# Altium schematic symbol library SamacSys.SchLib: 53 symbols
Pins are listed as number, name and electrical type; pins without a type are passive.

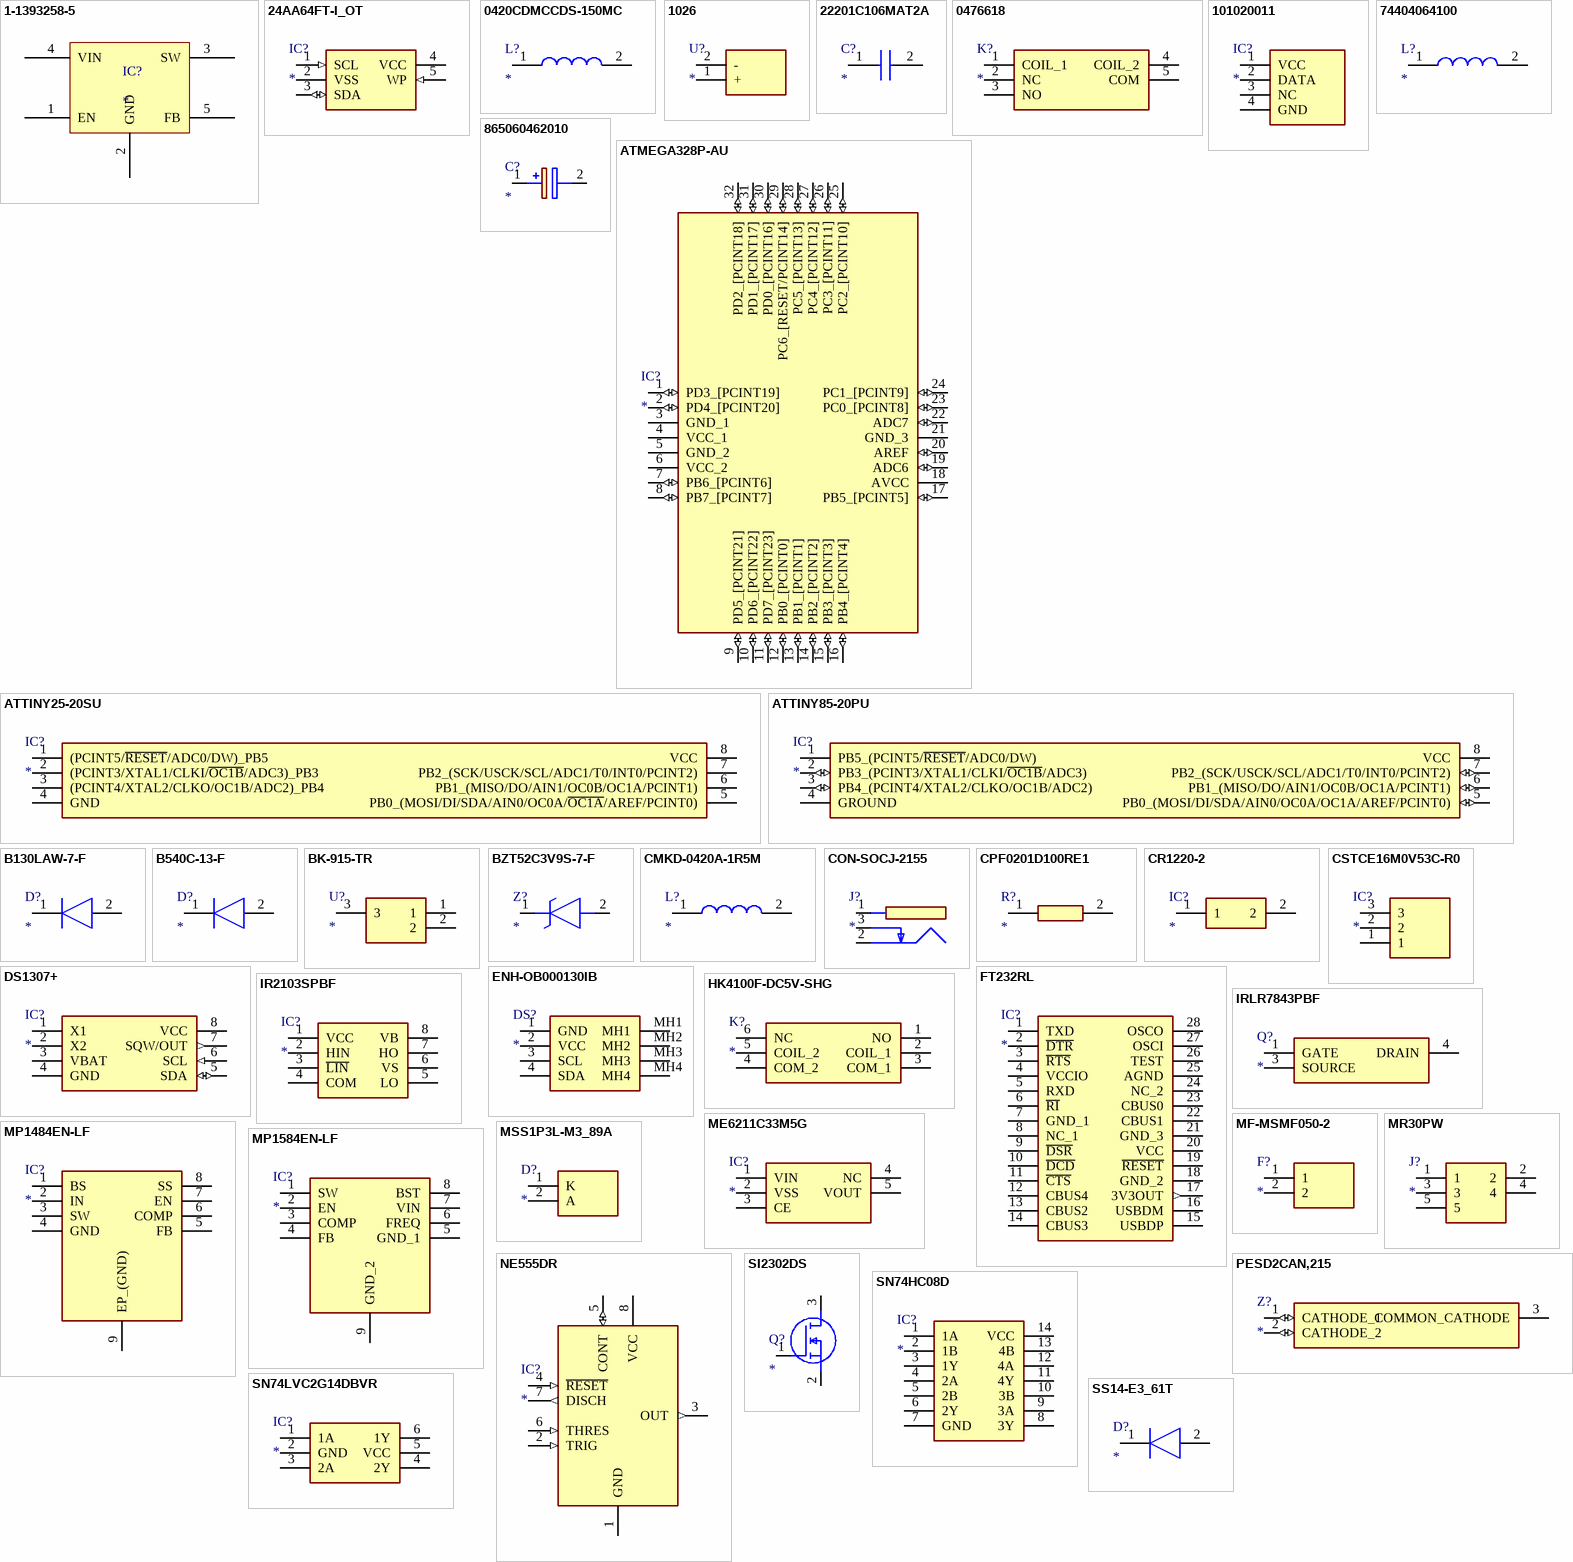
[diagram p0: symbols 1-1393258-5 to SS14-E3_61T]

## 1-1393258-5
designator IC?
Relay or Contactor; Manufacturer_Name: TE Connectivity; Manufacturer_Part_Number: 1-1393258-5; Datasheet Link: http://www.te.com/commerce/DocumentDelivery/DDEController?Action=showdoc&DocId=Data+Sheet%7FSR2M%7F1116%7Fpdf%7FEnglish%7FENG_DS_SR2M_1116.pdf%7F1-1393258-5; Height: 25mm
footprint 13932584
footprint SOT23-5
pins: 1 EN, 2 GND, 3 SW, 4 VIN, 5 FB

## 24AA64FT-I_OT
designator IC?
Integrated Circuit; Manufacturer_Name: Microchip; Manufacturer_Part_Number: 24AA64FT-I/OT; Datasheet Link: http://ww1.microchip.com/downloads/en/DeviceDoc/21189T.pdf; Height: 1.45mm; Mouser Part Number: 579-24AA64FT-I/OT; Mouser Price/Stock: https://www.mouser.com/Search/Refine.aspx?Keyword=579-24AA64FT-I%2FOT; RS Part Number: 8250991; RS Price/Stock: https://uk.rs-online.com/web/p/products/8250991
footprint SOT95P270X145-5N
pins: 1 SCL (in), 2 VSS (power), 3 SDA (io), 4 VCC (power), 5 WP (in)

## 0420CDMCCDS-150MC
designator L?
Inductor; Manufacturer_Name: Sumida; Manufacturer_Part_Number: 0420CDMCCDS-150MC; Datasheet Link: https://products.sumida.com/products/pdf/0420CDMCCDS1.pdf; Height: 2mm; Arrow Part Number: 0420CDMCCDS-150MC; Arrow Price/Stock: https://www.arrow.com/en/products/0420cdmccds-150mc/sumida; Mouser Part Number: 851-0420CDMCCDS150MC; Mouser Price/Stock: https://www.mouser.co.uk/ProductDetail/Sumida/0420CDMCCDS-150MC?qs=%252BEew9%252B0nqrBLzRjkkJGxWA%3D%3D
footprint 0420CDMCCDS150MC
pins: 1, 2

## 1026
designator U?
Undefined or Miscellaneous; Manufacturer_Name: Keystone Electronics; Manufacturer_Part_Number: 1026; Allied_Number: 70182086; Datasheet Link: http://www.keyelco.com/product-pdf.cfm?p=721; Mouser Part Number: 534-1026; Mouser Price/Stock: https://www.mouser.com/Search/Refine.aspx?Keyword=534-1026; RS Part Number: 1142133; RS Price/Stock: http://uk.rs-online.com/web/p/products/1142133; Allied Price/Stock: http://www.alliedelec.com/keystone-electronics-1026/70182086/
footprint 1026
pins: 1 +, 2 -

## 22201C106MAT2A
designator C?
Capacitor; Manufacturer_Name: AVX; Manufacturer_Part_Number: 22201C106MAT2A; Datasheet Link: http://datasheets.avx.com/X7RDielectric.pdf; Height: 2.54mm; Arrow Part Number: 22201C106MAT2A; Arrow Price/Stock: https://www.arrow.com/en/products/22201c106mat2a/avx; Mouser Part Number: 581-22201C106MAT2A; Mouser Price/Stock: https://www.mouser.co.uk/ProductDetail/AVX/22201C106MAT2A?qs=LGawwvMOr29m3pBB9JVCfA%3D%3D
footprint CAPC5750X254N
pins: 1, 2

## 0476618
designator K?
Relay or Contactor; Manufacturer_Name: RS Components; Manufacturer_Part_Number: 0476618; Datasheet Link: https://docs-emea.rs-online.com/webdocs/1583/0900766b81583163.pdf; Height: 15mm
footprint 0476618
pins: 1 COIL_1, 2 NC, 3 NO, 4 COIL_2, 5 COM

## 101020011
designator IC?
Integrated Circuit; Manufacturer_Name: Seeed Studio; Manufacturer_Part_Number: 101020011; Datasheet Link: https://componentsearchengine.com/Datasheets/1/101020011.pdf; Height: 15.5mm; Mouser Part Number: 713-101020011; Mouser Price/Stock: https://www.mouser.com/Search/Refine.aspx?Keyword=713-101020011; RS Part Number: 1743237; RS Price/Stock: http://uk.rs-online.com/web/p/products/1743237
footprint HDRV4W80P0X254_1X4_1200X500X1550P
pins: 1 VCC, 2 DATA, 3 NC, 4 GND

## 74404064100
designator L?
Inductor; Manufacturer_Name: Wurth Elektronik; Manufacturer_Part_Number: 74404064100; Datasheet Link: https://katalog.we-online.com/pbs/datasheet/74404064100.pdf; Height: 4mm; Mouser Part Number: 710-74404064100; Mouser Price/Stock: https://www.mouser.com/Search/Refine.aspx?Keyword=710-74404064100; RS Part Number: 8142663P; RS Price/Stock: http://uk.rs-online.com/web/p/products/8142663P
footprint 74404064470
pins: 1, 2

## 865060462010
designator C?
Capacitor Polarised; Manufacturer_Name: Wurth Elektronik; Manufacturer_Part_Number: 865060462010; Datasheet Link: https://katalog.we-online.de/pbs/datasheet/865060462010.pdf; Height: 14mm; Mouser Part Number: 710-865060462010; Mouser Price/Stock: https://www.mouser.com/Search/Refine.aspx?Keyword=710-865060462010; RS Part Number: 8395599; RS Price/Stock: https://uk.rs-online.com/web/p/products/8395599
footprint CAPAE1350X1400N
pins: 1 -, 2 +

## ATMEGA328P-AU
designator IC?
Integrated Circuit; Manufacturer_Name: Microchip; Manufacturer_Part_Number: ATMEGA328P-AU; Datasheet Link: https://componentsearchengine.com/Datasheets/2/ATMEGA328P-AU.pdf; Height: 1.2mm; Mouser Part Number: 556-ATMEGA328P-AU; Mouser Price/Stock: https://www.mouser.com/Search/Refine.aspx?Keyword=556-ATMEGA328P-AU; RS Part Number: 1310271P; RS Price/Stock: http://uk.rs-online.com/web/p/products/1310271P
footprint QFP80P900X900X120-32N
pins: 1 PD3_[PCINT19] (io), 2 PD4_[PCINT20] (io), 3 GND_1 (power), 4 VCC_1 (power), 5 GND_2 (power), 6 VCC_2 (power), 7 PB6_[PCINT6] (io), 8 PB7_[PCINT7] (io), 9 PD5_[PCINT21] (io), 10 PD6_[PCINT22] (io), 11 PD7_[PCINT23] (io), 12 PB0_[PCINT0] (io), 13 PB1_[PCINT1] (io), 14 PB2_[PCINT2] (io), 15 PB3_[PCINT3] (io), 16 PB4_[PCINT4] (io), 17 PB5_[PCINT5] (io), 18 AVCC (power), 19 ADC6 (io), 20 AREF (io), 21 GND_3 (power), 22 ADC7 (io), 23 PC0_[PCINT8] (io), 24 PC1_[PCINT9] (io), 25 PC2_[PCINT10] (io), 26 PC3_[PCINT11] (io), 27 PC4_[PCINT12] (io), 28 PC5_[PCINT13] (io), 29 PC6_[RESET/PCINT14] (io), 30 PD0_[PCINT16] (io), 31 PD1_[PCINT17] (io), 32 PD2_[PCINT18] (io)

## ATTINY25-20SU
designator IC?
Integrated Circuit; Manufacturer_Name: Microchip; Manufacturer_Part_Number: ATTINY25-20SU; Datasheet Link: http://docs-emea.rs-online.com/webdocs/0d68/0900766b80d68841.pdf; Height: 2.16mm; Mouser Part Number: 556-ATTINY25-20SU; Mouser Price/Stock: https://www.mouser.co.uk/ProductDetail/Microchip-Technology-Atmel/ATTINY25-20SU?qs=8jWQYweyg6Ne6mWXNq20wQ%3D%3D; RS Part Number: 6664499; RS Price/Stock: https://uk.rs-online.com/web/p/products/6664499
footprint SOIC127P798X216-8N
pins: 1 (PCINT5/~{RESET}/ADC0/DW)_PB5, 2 (PCINT3/XTAL1/CLKI/~{OC1B}/ADC3)_PB3, 3 (PCINT4/XTAL2/CLKO/OC1B/ADC2)_PB4, 4 GND, 5 PB0_(MOSI/DI/SDA/AIN0/OC0A/~{OC1A}/AREF/PCINT0), 6 PB1_(MISO/DO/AIN1/OC0B/OC1A/PCINT1), 7 PB2_(SCK/USCK/SCL/ADC1/T0/INT0/PCINT2), 8 VCC

## ATTINY85-20PU
designator IC?
Integrated Circuit; Manufacturer_Name: Microchip; Manufacturer_Part_Number: ATTINY85-20PU; Datasheet Link: https://componentsearchengine.com/Datasheets/2/ATTINY85-20PU.pdf; Height: 5.334mm; Mouser Part Number: 556-ATTINY85-20PU; Mouser Price/Stock: https://www.mouser.com/Search/Refine.aspx?Keyword=556-ATTINY85-20PU; RS Part Number: 1331672P; RS Price/Stock: http://uk.rs-online.com/web/p/products/1331672P
footprint DIP781W56P254L950H533Q8N
pins: 1 PB5_(PCINT5/~{RESET}/ADC0/DW), 2 PB3_(PCINT3/XTAL1/CLKI/~{OC1B}/ADC3) (io), 3 PB4_(PCINT4/XTAL2/CLKO/OC1B/ADC2) (io), 4 GROUND (power), 5 PB0_(MOSI/DI/SDA/AIN0/OC0A/OC1A/AREF/PCINT0) (io), 6 PB1_(MISO/DO/AIN1/OC0B/OC1A/PCINT1) (io), 7 PB2_(SCK/USCK/SCL/ADC1/T0/INT0/PCINT2) (io), 8 VCC (power)

## B130LAW-7-F
designator D?
Diode; Manufacturer_Name: Diodes Inc.; Manufacturer_Part_Number: B130LAW-7-F; Allied_Number: 70437536; Datasheet Link: http://docs-emea.rs-online.com/webdocs/104e/0900766b8104e347.pdf; Height: 1.45mm; Mouser Part Number: 621-B130LAW-F; Mouser Price/Stock: https://www.mouser.com/Search/Refine.aspx?Keyword=621-B130LAW-F; RS Part Number: 7513193P; RS Price/Stock: http://uk.rs-online.com/web/p/products/7513193P; Allied Price/Stock: http://www.alliedelec.com/diodes-inc-b130law-7-f/70437536/
footprint SOD3716X145N
pins: 1 K, 2 A

## B540C-13-F
designator D?
Diode; Manufacturer_Name: Diodes Inc.; Manufacturer_Part_Number: B540C-13-F; Datasheet Link: https://componentsearchengine.com/Datasheets/2/B540C-13-F.pdf; Height: 2.5mm; Arrow Part Number: B540C-13-F; Arrow Price/Stock: https://www.arrow.com/en/products/b540c-13-f/diodes-incorporated; Mouser Part Number: 621-B540C-F; Mouser Price/Stock: https://www.mouser.co.uk/ProductDetail/Diodes-Incorporated/B540C-13-F?qs=v2dnQLbuoRZXHN%2FK4ft5%252Bg%3D%3D
footprint DIOM7959X250N
pins: 1 K, 2 A

## BK-915-TR
designator U?
Undefined or Miscellaneous; Manufacturer_Name: MPD (Memory Protection Devices); Manufacturer_Part_Number: BK-915-TR; Datasheet Link: http://www.memoryprotectiondevices.com/datasheets/BK-915-datasheet.pdf; Height: 3mm
footprint BK915TR
pins: 1, 2, 3

## BZT52C3V9S-7-F
designator Z?
Zener Diode; Manufacturer_Name: Diodes Inc.; Manufacturer_Part_Number: BZT52C3V9S-7-F; Allied_Number: 70437795; Datasheet Link: https://www.diodes.com/assets/Datasheets/ds30093.pdf; Height: 1.1mm; Mouser Part Number: 621-BZT52C3V9S-F; Mouser Price/Stock: https://www.mouser.com/Search/Refine.aspx?Keyword=621-BZT52C3V9S-F; RS Part Number: 7513761; RS Price/Stock: https://uk.rs-online.com/web/p/products/7513761; Allied Price/Stock: https://www.alliedelec.com/diodes-inc-bzt52c3v9s-7-f/70437795/
footprint SOD2513X110N
pins: 1 K, 2 A

## CMKD-0420A-1R5M
designator L?
Inductor; Manufacturer_Name: Magsonder; Manufacturer_Part_Number: CMKD-0420A-1R5M; Datasheet Link: https://datasheet.lcsc.com/szlcsc/1912111437_Magsonder-CMKD-0420A-1R5M_C373330.pdf; Height: 2mm
footprint INDPM4442X200N
pins: 1, 2

## CON-SOCJ-2155
designator J?
Connector; Manufacturer_Name: Gravitech; Manufacturer_Part_Number: CON-SOCJ-2155; Datasheet Link: http://www.produktinfo.conrad.com/datenblaetter/1500000-1599999/001582350-da-01-en-DC_EINBAUBUCHSE__SCHALTER_GESCHLOSSEN.pdf; Height: 11mm; Mouser Part Number: 992-CON-SOCJ-2155; Mouser Price/Stock: https://www.mouser.com/Search/Refine.aspx?Keyword=992-CON-SOCJ-2155
footprint CONSOCJ2155
pins: 1, 2, 3

## CPF0201D100RE1
designator R?
Resistor; Manufacturer_Name: TE Connectivity; Manufacturer_Part_Number: CPF0201D100RE1; Datasheet Link: http://www.te.com/commerce/DocumentDelivery/DDEController?Action=showdoc&DocId=Data+Sheet%7F1773200-1%7FA%7Fpdf%7FEnglish%7FENG_DS_1773200-1_A.pdf%7F4-2176215-6; Height: 0.28mm; Mouser Part Number: 279-CPF0201D100RE1; Mouser Price/Stock: https://www.mouser.com/Search/Refine.aspx?Keyword=279-CPF0201D100RE1; RS Part Number: 7549192; RS Price/Stock: http://uk.rs-online.com/web/p/products/7549192
footprint RESC0603X28N
pins: 1, 2

## CR1220-2
designator IC?
Integrated Circuit; Manufacturer_Name: Q&J; Manufacturer_Part_Number: CR1220-2; Datasheet Link: https://datasheet.lcsc.com/szlcsc/Q-J-CR1220-2_C70381.pdf; Height: 4.1mm
footprint CR12202
pins: 1, 2

## CSTCE16M0V53C-R0
designator IC?
Integrated Circuit; Manufacturer_Name: Murata Electronics; Manufacturer_Part_Number: CSTCE16M0V53C-R0; Datasheet Link: https://www.murata.com/~/media/webrenewal/support/library/catalog/products/timingdevice/ceralock/p16e.ashx; Height: 1mm; Mouser Part Number: 81-CSTCE16M0V53C-R0; Mouser Price/Stock: https://www.mouser.com/Search/Refine.aspx?Keyword=81-CSTCE16M0V53C-R0; RS Part Number: 1062881P; RS Price/Stock: http://uk.rs-online.com/web/p/products/1062881P
footprint CSTCE16M0V53CR0
pins: 1, 2, 3

## DS1307+
designator IC?
Integrated Circuit; Manufacturer_Name: Maxim Integrated; Manufacturer_Part_Number: DS1307+; Datasheet Link: http://datasheets.maximintegrated.com/en/ds/DS1307.pdf; Height: 4.572mm; Mouser Part Number: 700-DS1307; Mouser Price/Stock: https://www.mouser.com/Search/Refine.aspx?Keyword=700-DS1307; RS Part Number: 1898457; RS Price/Stock: http://uk.rs-online.com/web/p/products/1898457
footprint DIP762W56P254L938H457Q8N
pins: 1 X1, 2 X2, 3 VBAT (power), 4 GND (power), 5 SDA (io), 6 SCL (in), 7 SQW/OUT (out), 8 VCC (power)

## ENH-OB000130IB
designator DS?
Display; Manufacturer_Name: Enrich; Manufacturer_Part_Number: ENH-OB000130IB; Datasheet Link: https://www.mediafire.com/file/zsigmwybxvnxqls/ENH-OB000130IB.pdf/file; Height: 4.4mm
footprint ENHOB000130IB
pins: 1 GND, 2 VCC, 3 SCL, 4 SDA, MH1, MH2, MH3, MH4

## FT232RL
designator IC?
Integrated Circuit; Manufacturer_Name: FTDI Chip; Manufacturer_Part_Number: FT232RL; Datasheet Link: http://www.ftdichip.com/Support/Documents/DataSheets/ICs/DS_FT232R.pdf; Height: 2mm; RS Part Number: 0406580P; RS Price/Stock: http://uk.rs-online.com/web/p/products/0406580P
footprint SOP65P780X200-28N
pins: 1 TXD, 2 ~{DTR}, 3 ~{RTS}, 4 VCCIO (power), 5 RXD, 6 ~{RI}, 7 GND_1 (power), 8 NC_1, 9 ~{DSR}, 10 ~{DCD}, 11 ~{CTS}, 12 CBUS4, 13 CBUS2, 14 CBUS3, 15 USBDP, 16 USBDM, 17 3V3OUT (out), 18 GND_2 (power), 19 ~{RESET}, 20 VCC (power), 21 GND_3 (power), 22 CBUS1, 23 CBUS0, 24 NC_2, 25 AGND (power), 26 TEST, 27 OSCI, 28 OSCO

## HK4100F-DC5V-SHG
designator K?
Relay or Contactor; Manufacturer_Name: Ningbo Keke New Era Appliance; Manufacturer_Part_Number: HK4100F-DC5V-SHG; Datasheet Link: https://datasheet.lcsc.com/szlcsc/1905051831_Ningbo-Keke-New-Era-Appliance-HK4100F-DC5V-SHG_C12072.pdf; Height: 12.1mm
footprint HK4100FDC5VSHG
pins: 1 NO, 2 COIL_1, 3 COM_1, 4 COM_2, 5 COIL_2, 6 NC

## IR2103SPBF
designator IC?
Integrated Circuit; Manufacturer_Name: International Rectifier; Manufacturer_Part_Number: IR2103SPBF; Description: International Rectifier IR2103SPBF; Datasheet Link: https://www.infineon.com/dgdl/ir2103.pdf?fileId=5546d462533600a4015355c7b54b166f; Height: 1.75mm
footprint SOIC127P600X175-8N
pins: 1 VCC, 2 HIN, 3 ~{LIN}, 4 COM, 5 LO, 6 VS, 7 HO, 8 VB

## IRLR7843PBF
designator Q?
Transistor; Manufacturer_Name: Infineon; Manufacturer_Part_Number: IRLR7843PBF; Description: HEXFET N-Ch MOSFET 161A 30V DPAK Infineon IRLR7843PBF N-channel MOSFET Transistor; Datasheet Link: https://www.infineon.com/dgdl/irlr7843pbf.pdf?fileId=5546d462533600a40153566de53526d8; Arrow Part Number: IRLR7843PBF; Arrow Price/Stock: https://www.arrow.com/en/products/irlr7843pbf/infineon-technologies-ag; Mouser Part Number: 942-IRLR7843PBF; Mouser Price/Stock: https://www.mouser.com/Search/Refine.aspx?Keyword=942-IRLR7843PBF
footprint D-PAK(TO-252AA)_1
pins: 1 GATE, 3 SOURCE, 4 DRAIN

## ME6211C33M5G
designator IC?
Integrated Circuit; Manufacturer_Name: Microne; Manufacturer_Part_Number: ME6211C33M5G; Datasheet Link: http://xinhuidianzi.com.cn/UploadSysFiles/files/LDO-series/ME6211-Series_E15.0.pdf; Height: 1.45mm
footprint SOT95P282X145-5N
pins: 1 VIN, 2 VSS, 3 CE, 4 NC, 5 VOUT

## MF-MSMF050-2
designator F?
Fuse; Manufacturer_Name: Bourns; Manufacturer_Part_Number: MF-MSMF050-2; Allied_Number: 70153466; Datasheet Link: https://www.bourns.com/pdfs/mfmsmf.pdf; Height: 0.85mm; Mouser Part Number: 652-MF-MSMF050-2; Mouser Price/Stock: https://www.mouser.com/Search/Refine.aspx?Keyword=652-MF-MSMF050-2; RS Part Number: 6478156P; RS Price/Stock: http://uk.rs-online.com/web/p/products/6478156P; Allied Price/Stock: https://www.alliedelec.com/bourns-mf-msmf050-2/70153466/
footprint FUSC4632X85N
pins: 1, 2

## MP1484EN-LF
designator IC?
Integrated Circuit; Manufacturer_Name: Monolithic Power Systems (MPS); Manufacturer_Part_Number: MP1484EN-LF; Datasheet Link: http://www.mouser.com/datasheet/2/277/MP1484-1186021.pdf; Height: 1.7mm; Mouser Part Number: 946-MP1484ENLF; Mouser Price/Stock: https://www.mouser.com/Search/Refine.aspx?Keyword=946-MP1484ENLF
footprint SOIC127P600X170-9N
pins: 1 BS, 2 IN, 3 SW, 4 GND, 5 FB, 6 COMP, 7 EN, 8 SS, 9 EP_(GND)

## MP1584EN-LF
designator IC?
Integrated Circuit; Manufacturer_Name: Monolithic Power Systems (MPS); Manufacturer_Part_Number: MP1584EN-LF; Datasheet Link: https://componentsearchengine.com/Datasheets/1/MP1584EN-LF.pdf; Height: 1.7mm; Mouser Part Number: 946-MP1584ENLF; Mouser Price/Stock: https://www.mouser.com/Search/Refine.aspx?Keyword=946-MP1584ENLF
footprint SOIC127P600X170-9N
pins: 1 SW, 2 EN, 3 COMP, 4 FB, 5 GND_1, 6 FREQ, 7 VIN, 8 BST, 9 GND_2

## MR30PW
designator J?
Connector; Manufacturer_Name: Amass; Manufacturer_Part_Number: MR30PW; Datasheet Link: http://www.bto.pl/pdf/08018/MR30PW-M.pdf; Height: 5mm
footprint MR30PW
pins: 1, 2, 3, 4, 5

## MSS1P3L-M3_89A
designator D?
Diode; Manufacturer_Name: Vishay; Manufacturer_Part_Number: MSS1P3L-M3/89A; Allied_Number: 70217631; Datasheet Link: http://www.vishay.com/docs/89020/mss1p3l.pdf; Mouser Part Number: 625-MSS1P3L-M3; Mouser Price/Stock: https://www.mouser.com/Search/Refine.aspx?Keyword=625-MSS1P3L-M3; RS Part Number: 7103061P; RS Price/Stock: http://uk.rs-online.com/web/p/products/7103061P; Allied Price/Stock: https://www.alliedelec.com/general-semiconductor-vishay-mss1p3l-m3-89a/70217631/
footprint MICROSMP(ESMP)
pins: 1 K, 2 A

## NE555DR
designator IC?
Integrated Circuit; Manufacturer_Name: Texas Instruments; Manufacturer_Part_Number: NE555DR; Datasheet Link: http://www.ti.com/lit/ds/symlink/ne555.pdf; Height: 1.75mm; Mouser Part Number: 595-NE555DR; Mouser Price/Stock: https://www.mouser.com/Search/Refine.aspx?Keyword=595-NE555DR; RS Part Number: 1218414; RS Price/Stock: http://uk.rs-online.com/web/p/products/1218414
footprint SOIC127P600X175-8N
pins: 1 GND (power), 2 TRIG (in), 3 OUT (out), 4 ~{RESET} (in), 5 CONT (io), 6 THRES (in), 7 DISCH (out), 8 VCC (power)

## PESD2CAN,215
designator Z?
Zener Diode; Manufacturer_Name: Nexperia; Manufacturer_Part_Number: PESD2CAN,215; Datasheet Link: http://de.rs-online.com/webdocs/0b4d/0900766b80b4dbb6.pdf; Height: 1.1mm; Mouser Part Number: 771-PESD2CAN-T/R; Mouser Price/Stock: https://www.mouser.com/Search/Refine.aspx?Keyword=771-PESD2CAN-T%2FR; RS Part Number: 0508462; RS Price/Stock: http://uk.rs-online.com/web/p/products/0508462
footprint SOT95P230X110-3N
pins: 1 CATHODE_1 (io), 2 CATHODE_2 (io), 3 COMMON_CATHODE (power)

## SI2302DS
designator Q?
MOSFET (N-Channel); Manufacturer_Name: Nexperia; Manufacturer_Part_Number: SI2302DS; Datasheet Link: https://assets.nexperia.com/documents/data-sheet/SI2302DS.pdf; Height: 1.1mm; Mouser Part Number: N/A; Mouser Price/Stock: https://www.mouser.com/Search/Refine.aspx?Keyword=N%2FA; RS Part Number: 7983053P; RS Price/Stock: http://uk.rs-online.com/web/p/products/7983053P
footprint SOT95P230X110-3N
pins: 1 G, 2 S, 3 D

## SN74HC08D
designator IC?
Integrated Circuit; Manufacturer_Name: Texas Instruments; Manufacturer_Part_Number: SN74HC08D; Description: Quadruple 2-Input Positive-AND Gates; Datasheet Link: http://docs-emea.rs-online.com/webdocs/0b80/0900766b80b80bbb.pdf; Height: 1.75mm; Arrow Part Number: SN74HC08D; Arrow Price/Stock: https://www.arrow.com/en/products/sn74hc08d/texas-instruments; Mouser Part Number: 595-SN74HC08D; Mouser Price/Stock: https://www.mouser.co.uk/ProductDetail/Texas-Instruments/SN74HC08D?qs=st7IWvlL5%2FjpJg0KgrS5HQ%3D%3D
footprint SOIC127P600X175-14N
pins: 1 1A, 2 1B, 3 1Y, 4 2A, 5 2B, 6 2Y, 7 GND, 8 3Y, 9 3A, 10 3B, 11 4Y, 12 4A, 13 4B, 14 VCC

## SN74LVC2G14DBVR
designator IC?
Integrated Circuit; Manufacturer_Name: Texas Instruments; Manufacturer_Part_Number: SN74LVC2G14DBVR; Datasheet Link: http://componentsearchengine.com/Datasheets/3/SN74LVC2G14DBVR.pdf; Height: 1.45mm; Arrow Part Number: SN74LVC2G14DBVR; Arrow Price/Stock: https://www.arrow.com/en/products/sn74lvc2g14dbvr/texas-instruments; Mouser Part Number: 595-SN74LVC2G14DBVR; Mouser Price/Stock: https://www.mouser.co.uk/ProductDetail/Texas-Instruments/SN74LVC2G14DBVR?qs=q2XTDbzbm6DXbZiJ8Yzjpw%3D%3D
footprint SOT95P280X145-6N
pins: 1 1A, 2 GND, 3 2A, 4 2Y, 5 VCC, 6 1Y

## SS14-E3_61T
designator D?
Diode; Manufacturer_Name: Vishay; Manufacturer_Part_Number: SS14-E3/61T; Allied_Number: 70217666; Datasheet Link: http://docs-emea.rs-online.com/webdocs/0928/0900766b809284de.pdf; Height: 2.29mm; Mouser Part Number: 625-SS14-E3; Mouser Price/Stock: https://www.mouser.com/Search/Refine.aspx?Keyword=625-SS14-E3; RS Part Number: 6387915P; RS Price/Stock: http://uk.rs-online.com/web/p/products/6387915P; Allied Price/Stock: https://www.alliedelec.com/general-semiconductor-vishay-ss14-e3-61t/70217666/
footprint DIOM5127X229N
pins: 1 K, 2 A

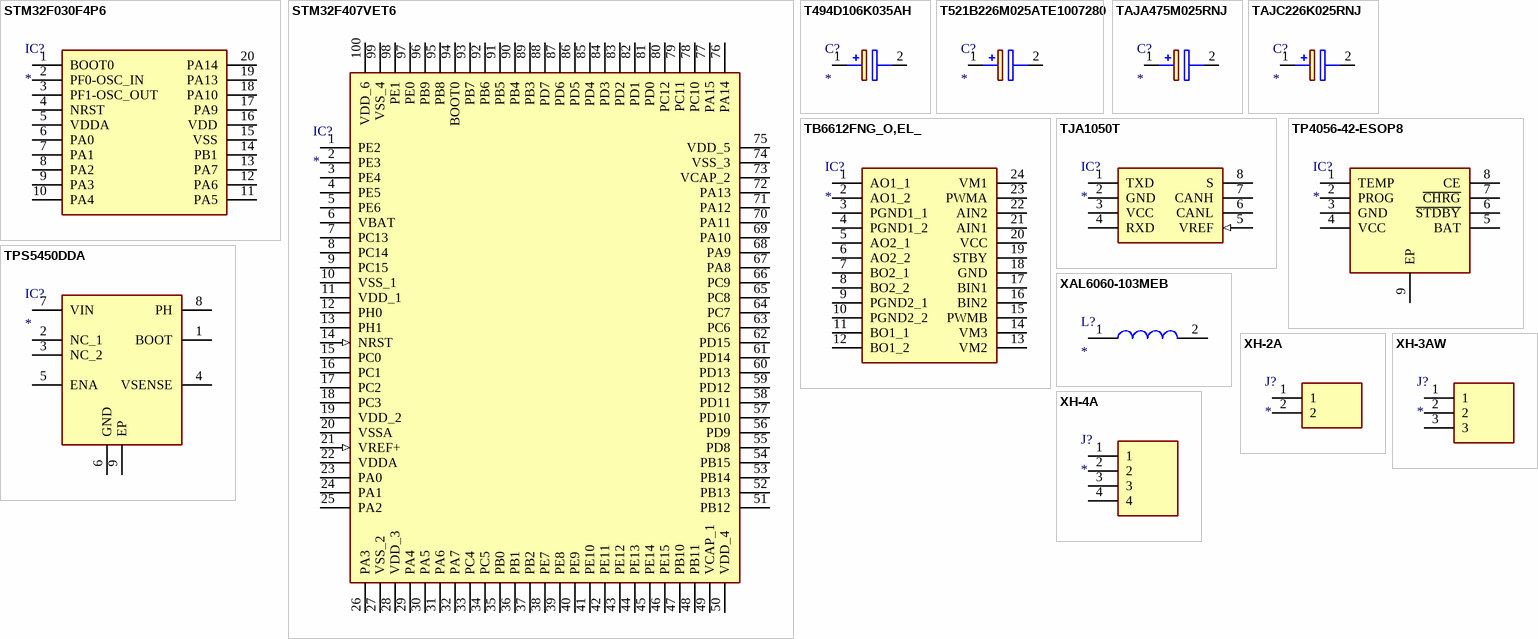
[diagram p1: symbols STM32F030F4P6 to XH-4A]

## STM32F030F4P6
designator IC?
Integrated Circuit; Manufacturer_Name: STMicroelectronics; Manufacturer_Part_Number: STM32F030F4P6; Datasheet Link: http://www.st.com/web/en/resource/technical/document/datasheet/DM00088500.pdf; Height: 1.2mm; Arrow Part Number: STM32F030F4P6; Arrow Price/Stock: https://www.arrow.com/en/products/stm32f030f4p6/stmicroelectronics; Mouser Part Number: 511-STM32F030F4P6; Mouser Price/Stock: https://www.mouser.co.uk/ProductDetail/STMicroelectronics/STM32F030F4P6?qs=eyrSuY1LhL02tVhJ92aI6g%3D%3D
footprint SOP65P640X120-20N
pins: 1 BOOT0, 2 PF0-OSC_IN, 3 PF1-OSC_OUT, 4 NRST, 5 VDDA, 6 PA0, 7 PA1, 8 PA2, 9 PA3, 10 PA4, 11 PA5, 12 PA6, 13 PA7, 14 PB1, 15 VSS, 16 VDD, 17 PA9, 18 PA10, 19 PA13, 20 PA14

## STM32F407VET6
designator IC?
Integrated Circuit; Manufacturer_Name: STMicroelectronics; Manufacturer_Part_Number: STM32F407VET6; Allied_Number: 70391106; Datasheet Link: http://www.st.com/web/en/resource/technical/document/datasheet/DM00037051.pdf; Height: 1.6mm; Mouser Part Number: 511-STM32F407VET6; Mouser Price/Stock: https://www.mouser.com/Search/Refine.aspx?Keyword=511-STM32F407VET6; RS Part Number: 7468223P; RS Price/Stock: http://uk.rs-online.com/web/p/products/7468223P; Allied Price/Stock: http://www.alliedelec.com/stmicroelectronics-stm32f407vet6/70391106/
footprint QFP50P1600X1600X160-100N
pins: 1 PE2, 2 PE3, 3 PE4, 4 PE5, 5 PE6, 6 VBAT, 7 PC13, 8 PC14, 9 PC15, 10 VSS_1 (power), 11 VDD_1 (power), 12 PH0, 13 PH1, 14 NRST (in), 15 PC0, 16 PC1, 17 PC2, 18 PC3, 19 VDD_2 (power), 20 VSSA (power), 21 VREF+ (in), 22 VDDA (power), 23 PA0, 24 PA1, 25 PA2, 26 PA3, 27 VSS_2 (power), 28 VDD_3 (power), 29 PA4, 30 PA5, 31 PA6, 32 PA7, 33 PC4, 34 PC5, 35 PB0, 36 PB1, 37 PB2, 38 PE7, 39 PE8, 40 PE9, 41 PE10, 42 PE11, 43 PE12, 44 PE13, 45 PE14, 46 PE15, 47 PB10, 48 PB11, 49 VCAP_1, 50 VDD_4 (power), 51 PB12, 52 PB13, 53 PB14, 54 PB15, 55 PD8, 56 PD9, 57 PD10, 58 PD11, 59 PD12, 60 PD13, 61 PD14, 62 PD15, 63 PC6, 64 PC7, 65 PC8, 66 PC9, 67 PA8, 68 PA9, 69 PA10, 70 PA11, 71 PA12, 72 PA13, 73 VCAP_2, 74 VSS_3 (power), 75 VDD_5 (power), 76 PA14, 77 PA15, 78 PC10, 79 PC11, 80 PC12, 81 PD0, 82 PD1, 83 PD2, 84 PD3, 85 PD4, 86 PD5, 87 PD6, 88 PD7, 89 PB3, 90 PB4, 91 PB5, 92 PB6, 93 PB7, 94 BOOT0, 95 PB8, 96 PB9, 97 PE0, 98 PE1, 99 VSS_4 (power), 100 VDD_6 (power)

## T494D106K035AH
designator C?
Capacitor Polarised; Manufacturer_Name: Kemet; Manufacturer_Part_Number: T494D106K035AH; Datasheet Link: http://www.mouser.com/ds/2/212/kemet_kem_t2008_t494-544880.pdf; Height: 3.1mm; Mouser Part Number: 80-T494D106K035AH; Mouser Price/Stock: https://www.mouser.com/Search/Refine.aspx?Keyword=80-T494D106K035AH
footprint CAPPM7343X310N
pins: 1 +, 2 -

## T521B226M025ATE1007280
designator C?
Capacitor Polarised; Manufacturer_Name: Kemet; Manufacturer_Part_Number: T521B226M025ATE1007280; Datasheet Link: https://api.kemet.com/component-edge/download/specsheet/T521B226M025ATE1007280.pdf; Height: 2mm; Mouser Part Number: 80-T521B226M25E100LR; Mouser Price/Stock: https://www.mouser.co.uk/ProductDetail/KEMET/T521B226M025ATE1007280?qs=AQlKX63v8Rva%2F9zic7%2FWIg%3D%3D
footprint CAPPM3528X200N
pins: 1 +, 2 -

## TAJA475M025RNJ
designator C?
Capacitor Polarised; Manufacturer_Name: AVX; Manufacturer_Part_Number: TAJA475M025RNJ; Datasheet Link: http://www.farnell.com/datasheets/1680476.pdf; Height: 1.8mm; Mouser Part Number: 581-TAJA475M025RNJ; Mouser Price/Stock: http://www.mouser.com/Search/ProductDetail.aspx?qs=aS9KCxSWVDbNY%252b7%2fq0OjTA%3d%3d
footprint CAPPM3216X180N
pins: 1 +, 2 -

## TAJC226K025RNJ
designator C?
Capacitor Polarised; Manufacturer_Name: AVX; Manufacturer_Part_Number: TAJC226K025RNJ; Datasheet Link: http://datasheets.avx.com/TAJ.pdf; Height: 2.8mm; Arrow Part Number: TAJC226K025RNJ; Arrow Price/Stock: https://www.arrow.com/en/products/tajc226k025rnj/avx; Mouser Part Number: 581-TAJC226K025R; Mouser Price/Stock: https://www.mouser.co.uk/ProductDetail/AVX/TAJC226K025RNJ?qs=ZfDiupplM3TXvWbrzYGnnA%3D%3D
footprint CAPPM6032X280N
pins: 1 +, 2 -

## TB6612FNG_O,EL_
designator IC?
Integrated Circuit; Manufacturer_Name: Toshiba; Manufacturer_Part_Number: TB6612FNG(O,EL); Datasheet Link: https://th.mouser.com/datasheet/2/408/TB6612FNG_datasheet_en_20141001-708260.pdf; Height: 1.6mm; Mouser Part Number: 757-TB6612FNG(O,EL); Mouser Price/Stock: https://www.mouser.co.uk/ProductDetail/Toshiba/TB6612FNGOEL?qs=%2FbfygUuxYr5ys7QLPOzyng%3D%3D
footprint SOP65P760X160-24N
pins: 1 AO1_1, 2 AO1_2, 3 PGND1_1, 4 PGND1_2, 5 AO2_1, 6 AO2_2, 7 BO2_1, 8 BO2_2, 9 PGND2_1, 10 PGND2_2, 11 BO1_1, 12 BO1_2, 13 VM2, 14 VM3, 15 PWMB, 16 BIN2, 17 BIN1, 18 GND, 19 STBY, 20 VCC, 21 AIN1, 22 AIN2, 23 PWMA, 24 VM1

## TJA1050T
designator IC?
Integrated Circuit; Manufacturer_Name: Nexperia; Manufacturer_Part_Number: TJA1050T; Datasheet Link: http://docs-emea.rs-online.com/webdocs/0425/0900766b80425301.pdf; Height: 1.75mm; Mouser Part Number: N/A; Mouser Price/Stock: https://www.mouser.com/Search/Refine.aspx?Keyword=N%2FA; RS Part Number: 4837569P; RS Price/Stock: http://uk.rs-online.com/web/p/products/4837569P
footprint SOIC127P600X175-8N
pins: 1 TXD, 2 GND (power), 3 VCC (power), 4 RXD, 5 VREF (in), 6 CANL, 7 CANH, 8 S

## TP4056-42-ESOP8
designator IC?
Integrated Circuit; Manufacturer_Name: Nanjing Extension Microelectronics; Manufacturer_Part_Number: TP4056-42-ESOP8; Datasheet Link: https://datasheet.lcsc.com/szlcsc/1906261508_Nanjing-Extension-Microelectronics-TP4056-42-ESOP8_C16581.pdf; Height: 1.75mm
footprint SOIC127P600X175-9N
pins: 1 TEMP, 2 PROG, 3 GND, 4 VCC, 5 BAT, 6 ~{STDBY}, 7 ~{CHRG}, 8 CE, 9 EP

## TPS5450DDA
designator IC?
Integrated Circuit; Manufacturer_Name: Texas Instruments; Manufacturer_Part_Number: TPS5450DDA; Datasheet Link: http://www.ti.com/lit/ds/symlink/tps5450.pdf; Height: 1.7mm; Arrow Part Number: TPS5450DDA; Arrow Price/Stock: https://www.arrow.com/en/products/tps5450dda/texas-instruments; Mouser Part Number: 595-TPS5450DDA; Mouser Price/Stock: https://www.mouser.co.uk/ProductDetail/Texas-Instruments/TPS5450DDA?qs=h%2FYsCRHtaqPow3uMxnjN5A%3D%3D
footprint SOIC127P600X170-9N
pins: 1 BOOT, 2 NC_1, 3 NC_2, 4 VSENSE, 5 ENA, 6 GND, 7 VIN, 8 PH, 9 EP

## XAL6060-103MEB
designator L?
Inductor; Manufacturer_Name: COILCRAFT; Manufacturer_Part_Number: XAL6060-103MEB; Datasheet Link: http://www.coilcraft.com/misc/xal6000d.html; Mouser Part Number: 994-XAL6060-103MEB; Mouser Price/Stock: https://www.mouser.com/Search/Refine.aspx?Keyword=994-XAL6060-103MEB
footprint XAL6060-103MEB
pins: 1, 2

## XH-2A
designator J?
Connector; Manufacturer_Name: BOOMELE(Boom Precision Elec); Manufacturer_Part_Number: XH-2A; Datasheet Link: https://datasheet.lcsc.com/szlcsc/1811132110_BOOMELE-Boom-Precision-Elec-XH-2A_C20079.pdf; Height: 7.2mm
footprint SHDR2W64P0X250_1X2_740X580X720P
pins: 1, 2

## XH-3AW
designator J?
Connector; Manufacturer_Name: BOOMELE(Boom Precision Elec); Manufacturer_Part_Number: XH-3AW; Datasheet Link: https://datasheet.lcsc.com/szlcsc/1811081022_BOOMELE-Boom-Precision-Elec-XH-3AW_C18428.pdf; Height: 5.9mm
footprint XH3AW
pins: 1, 2, 3

## XH-4A
designator J?
Connector; Manufacturer_Name: Boom Precision Electric; Manufacturer_Part_Number: XH-4A; Datasheet Link: https://datasheet.lcsc.com/szlcsc/Boom-Precision-Elec-XH-4A_C37815.pdf; Height: 7mm
footprint SHDR4W35P0X250_1X4_1250X580X700P
pins: 1, 2, 3, 4